# Altium schematic symbol library GCM155R71E333KA55D.SchLib: 1 symbol
Pins are listed as number, name and electrical type; pins without a type are passive.

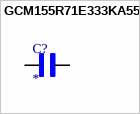
[diagram p0: symbol GCM155R71E333KA55D]

## GCM155R71E333KA55D
designator C?
0402 33 nF 25 V Â±10 % Tolerance X7R SMT Multilayer Ceramic Capacitor; MF: Murata; MP: GCM155R71E333KA55D; SnapEDA_Link: https://www.snapeda.com/parts/GCM155R71E333KA55D/Murata+Electronics+North+America/view-part/?ref=snap; Package: 1005 Taiyo Yuden; Value: *; Check_prices: https://www.snapeda.com/parts/GCM155R71E333KA55D/Murata+Electronics+North+America/view-part/?ref=eda
pins: 1, 2